# Altium footprint library R1812.PcbLib: 1 footprints
Each footprint in its own frame and in the unit in brackets; x right, y up, seen from the top. Pads: shape width x height; smd on the part's side, far side on the other; paste and mask are expansions set on the pad; w line width, h text height; cw(c..) or ccw(c..) is an arc to the next point about the centre after c.
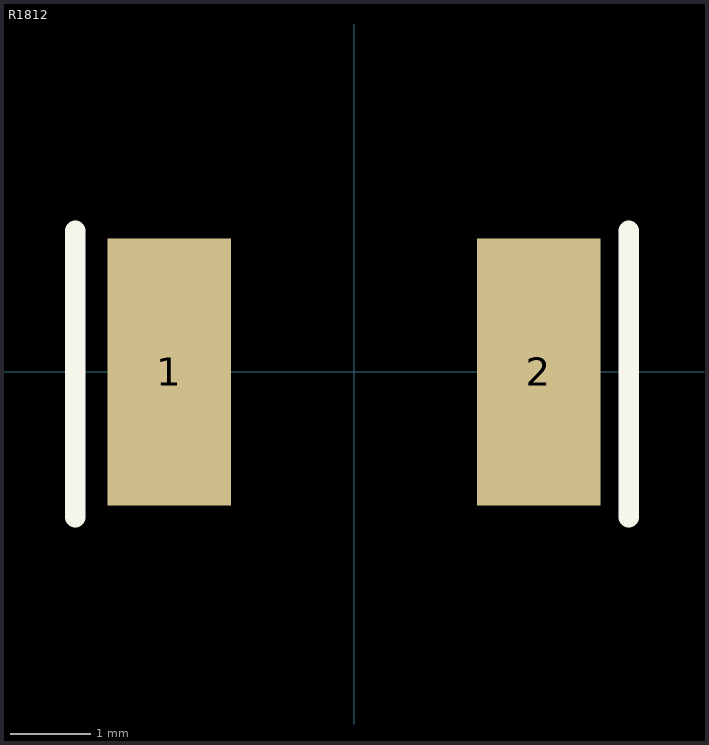
[diagram p0: the footprint, top view; thin cyan lines are the x and y axes]

## R1812 [mil]
height 106.3
pads (2):
  rect 60x130 smd: 1(-90,0) 2(90,0)
Top Overlay:
  lines w10: -135.83,-70.87 -135.83,68.9 ; 133.86,-70.87 133.86,68.9
3D body: height 23.62, standoff 0, extent -84.65,-62.99 92.52,62.99